# Altium schematic symbol library TAOGLAS_GGBLA.125.A.SchLib: 1 symbol
Pins are listed as number, name and electrical type; pins without a type are passive.

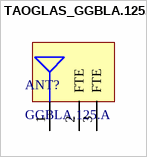
[diagram p0: symbol TAOGLAS_GGBLA.125.A]

## TAOGLAS_GGBLA.125.A
designator ANT?, comment GGBLA.125.A
GPS L1/L2/L5/L6, GLONASS, BeiDou Ceramic Loop Antenna for cm-Level with RTK; ComponentLibStatus: Created; MFG: Taoglas; Temp_High: +85C; Temp_Low: -40C; Datasheet: https://www.taoglas.com/datasheets/GGBLA.125.A.pdf; FootprintLibStatus: Created; MFGPN: GGBLA.125.A; RoHS: RoHS Compliant; Version: 3.0
footprint TAOGLAS_GGBLA.125.A (GPS L1/L2/L5/L6, GLONASS, BeiDou Ceramic Loop Antenna for cm-Level with RTK)
footprint TAOGLAS_GGBLA.125.A_CornerMount (GPS L1/L2/L5/L6, GLONASS, BeiDou Ceramic Loop Antenna for cm-Level with RTK)
footprint TAOGLAS_GGBLA.125.A_DECT-NTN-L1 (GPS L1/L2/L5/L6, GLONASS, BeiDou Ceramic Loop Antenna for cm-Level with RTK)
pins: 1 RF FEED "TAP", 2 FTE, 3 FTE